# Altium schematic symbol library KNX_MCU_8CH_V1.2.SCHLIB: 46 symbols
Pins are listed as number, name and electrical type; pins without a type are passive.

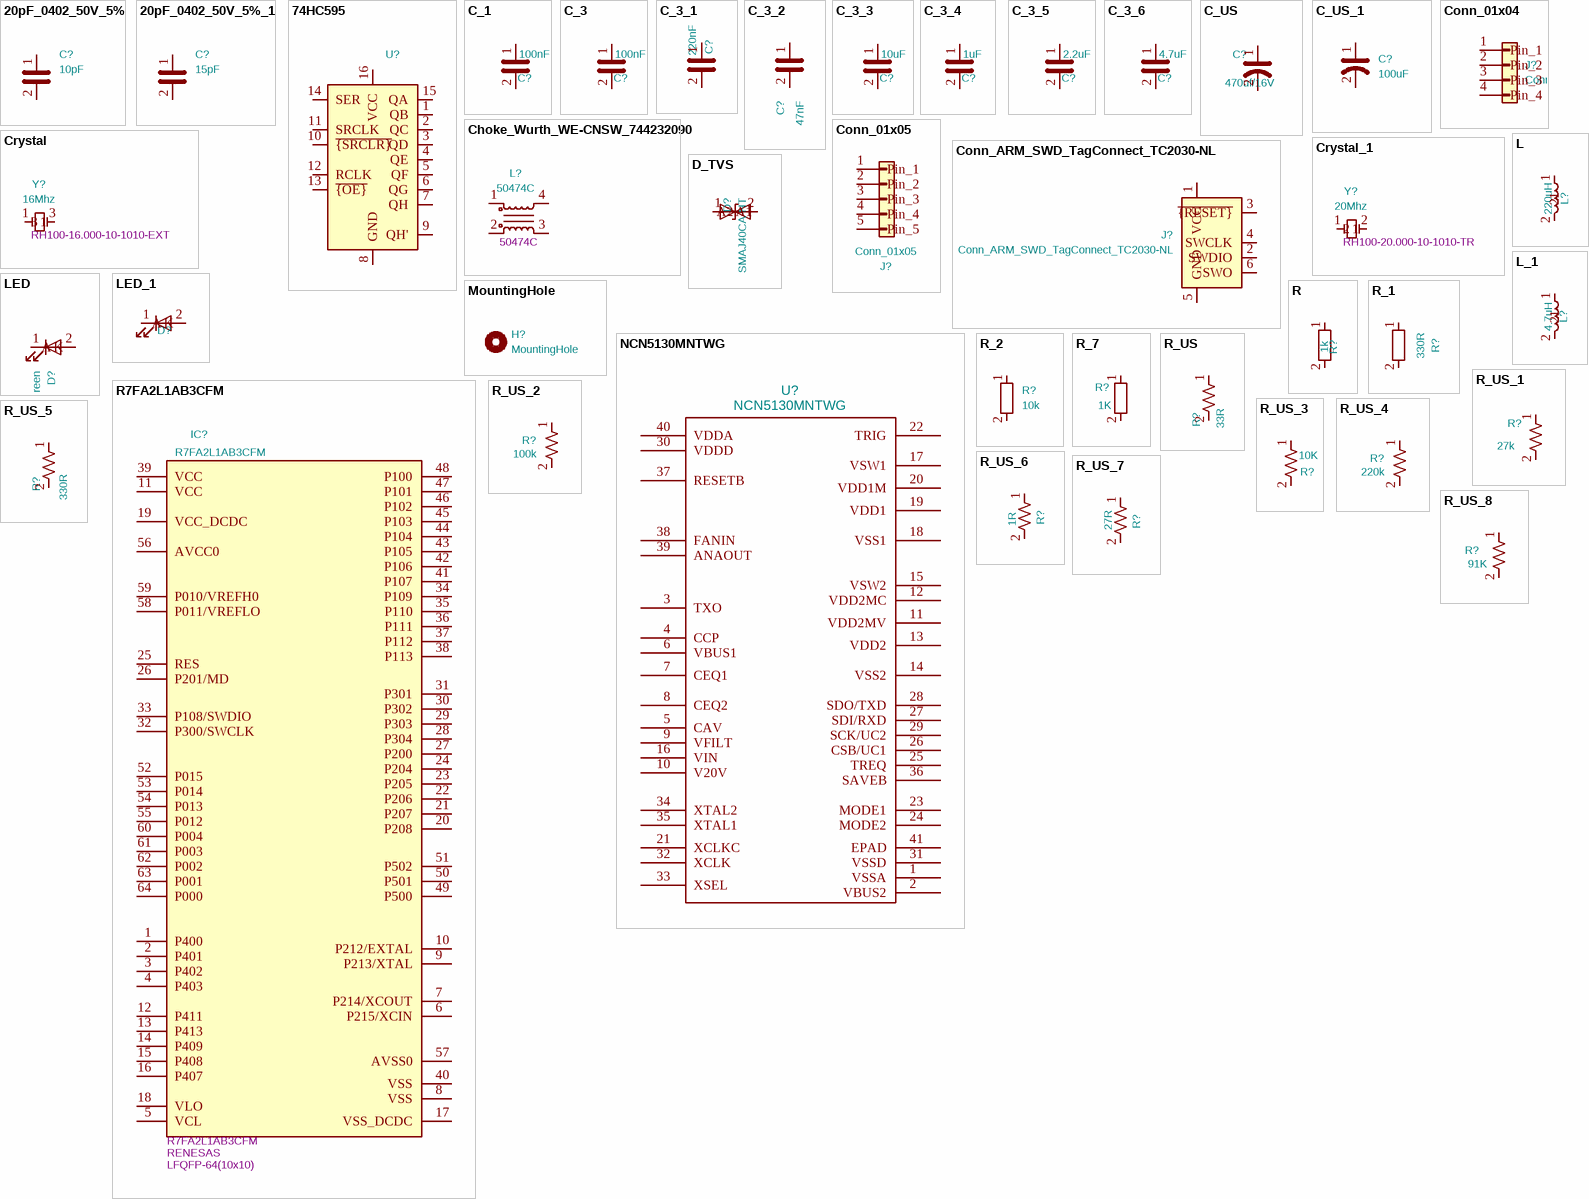
[diagram p0: symbols 20pF_0402_50V_5% to R_US_8]

## 20pF_0402_50V_5%
designator C?, comment 10pF
MP: CL10C100JB8NNNC; MF: Samsung Electro-Mechanics; Package: C0603; OZD: CL10C100JB8NNNC; Footprint: Capacitor_SMD:C_0603_1608Metric; Value: 10pF
footprint C_0603_1608Metric
pins: 1, 2

## 20pF_0402_50V_5%_1
designator C?, comment 15pF
MP: CL10C150JB8NNNC; MF: Samsung Electro-Mechanics; Package: C0603; OZD: CL10C150JB8NNNC; Value: 15pF; Footprint: Capacitor_SMD:C_0603_1608Metric
footprint C_0603_1608Metric
pins: 1, 2

## 74HC595
designator U?, comment 74HC595PW,118  (value not drawn)
MF: Nexperia; MP: 74HC595PW,118; Package: TSSOP-16; Value: 74HC595PW,118; Footprint: Package_SO:TSSOP-16_4.4x5mm_P0.65mm
footprint TSSOP-16_4.4x5mm_P0.65mm
pins: 1 QB, 2 QC, 3 QD, 4 QE, 5 QF, 6 QG, 7 QH, 8 GND, 9 QH', 10 ~{{SRCLR}}, 11 SRCLK, 12 RCLK, 13 ~{{OE}}, 14 SER, 15 QA, 16 VCC

## C_1
designator C?, comment 100nF
MP: CL10B104KB8NNNC; MF: Samsung Electro-Mechanics; Package: C_0603; Value: 100nF; Footprint: Capacitor_SMD:C_0603_1608Metric
footprint C_0603_1608Metric
pins: 1, 2

## C_3
designator C?, comment 100nF
MP: CC0603KRX7R9BB104; MF: YAGEO; Package: C_0603; Value: 100nF; Footprint: Capacitor_SMD:C_0603_1608Metric
footprint C_0603_1608Metric
pins: 1, 2

## C_3_1
designator C?, comment 220nF
MP: CL10B224KB8NNNC; MF: Samsung Electro-Mechanics; Package: C_0603; OZD: CL10B224KB8NNNC; Value: 220nF; Footprint: Capacitor_SMD:C_0603_1608Metric
footprint C_0603_1608Metric
pins: 1, 2

## C_3_2
designator C?, comment 47nF
MP: CL10B473KB8NNNC; MF: SAMSUNG; Package: C_0603; OZD: CL10B473KB8NNNC; Value: 47nF; Footprint: Capacitor_SMD:C_0603_1608Metric
footprint C_0603_1608Metric
pins: 1, 2

## C_3_3
designator C?, comment 10uF
MP: CL21B106KOQNNNE; MF: Samsung Electro-Mechanics; Package: C_0805; OZD: CL21B106KOQNNNE; Value: 10uF; Footprint: Capacitor_SMD:C_0805_2012Metric
footprint C_0805_2012Metric
pins: 1, 2

## C_3_4
designator C?, comment 1uF
MP: CL10B105KP8NNNC; MF: Samsung Electro-Mechanics; Package: C_0603; OZD: CL10B105KP8NNNC; Value: 1uF; Footprint: Capacitor_SMD:C_0603_1608Metric
footprint C_0603_1608Metric
pins: 1, 2

## C_3_5
designator C?, comment 2.2uF
MP: CL10B225KP8NNNC; MF: Samsung Electro-Mechanics; Package: C_0603; OZD: CL10B225KP8NNNC; Value: 2.2uF; Footprint: Capacitor_SMD:C_0603_1608Metric
footprint C_0603_1608Metric
pins: 1, 2

## C_3_6
designator C?, comment 4.7uF
MP: CL10B475KQ8NQNC; MF: Samsung Electro-Mechanics; OZD: C1608X7S1A475K080AC; Package: C_0603; Value: 4.7uF; Footprint: Capacitor_SMD:C_0603_1608Metric
footprint C_0603_1608Metric
pins: 1, 2

## C_US
designator C?, comment 470uf/16V
OZD: EEEFK1C471P; Value: 470uf/16V; Footprint: Capacitor_SMD:CP_Elec_8x10
footprint CP_Elec_8x10
pins: 1, 2

## C_US_1
designator C?, comment 100uF
MP: CD035M101F10PKKKV00A; MF: SUSCON; Package: Radial D8 L10; Value: 100uF; Footprint: Capacitor_SMD:CP_Elec_8x10
footprint CP_Elec_8x10
pins: 1, 2

## Choke_Wurth_WE-CNSW_744232090
designator L?, comment 50474C
MF: muRata; MP: 50474C; Package: SMD-4P,7x5.9mm; OZD: 50474C; Value: 50474C; Footprint: Me_Library:L_CommonMode_50474C_7.5x5.9mm
footprint L_CommonMode_50474C_7.5x5.9mm
pins: 1, 2, 3, 4

## Conn_01x04
designator J?
Footprint: Connector_PinHeader_2.54mm:PinHeader_1x04_P2.54mm_Vertical; Value: Conn_01x04
footprint PinHeader_1x04_P2.54mm_Vertical
pins: 1 Pin_1, 2 Pin_2, 3 Pin_3, 4 Pin_4

## Conn_01x05
designator J?
Value: Conn_01x05; Footprint: Connector_PinHeader_2.54mm:PinHeader_1x05_P2.54mm_Vertical
footprint PinHeader_1x05_P2.54mm_Vertical
pins: 1 Pin_1, 2 Pin_2, 3 Pin_3, 4 Pin_4, 5 Pin_5

## Conn_ARM_SWD_TagConnect_TC2030-NL
designator J?
Footprint: Connector:Tag-Connect_TC2030-IDC-NL_2x03_P1.27mm_Vertical; Value: Conn_ARM_SWD_TagConnect_TC2030-NL
footprint Tag-Connect_TC2030-IDC-NL_2x03_P1.27mm_Vertical
pins: 1 VCC, 2 SWDIO, 3 ~{{RESET}}, 4 SWCLK, 5 GND, 6 SWO

## Crystal
designator Y?, comment OZD: RH100-16.000-10-1010-EXT  (hidden comment: 16Mhz)
MF: RALTRON; MP: RH100-16.000-10-1010-EXT; Package: 4-SMD; Value: 16Mhz; Footprint: Crystal:Crystal_SMD_SeikoEpson_FA238V-4Pin_3.2x2.5mm
footprint Crystal_SMD_SeikoEpson_FA238V-4Pin_3.2x2.5mm
pins: 1, 3

## Crystal_1
designator Y?, comment OZD: RH100-20.000-10-1010-TR  (hidden comment: 20Mhz)
MP: FL3P2X2P5SSC; MF: RALTRON; Package: 4-SMD 3225; Value: 20Mhz; Footprint: Crystal:Crystal_SMD_SeikoEpson_FA238-4Pin_3.2x2.5mm
footprint Crystal_SMD_SeikoEpson_FA238-4Pin_3.2x2.5mm
pins: 1, 2

## D_TVS
designator D?, comment SMAJ40CA-HT
MF: HOTTECH; MP: SMAJ40CA-HT; Package: DO214AC (SMA); OZD: SMAJ40CA-HT; Value: SMAJ40CA-HT; Footprint: Diode_SMD:D_SMA
footprint D_SMA
pins: 1 A1, 2 A2

## L
designator L?, comment 220uH
MP: NR6028-221M; MF: CORE MASTER; Package: Non Standard; Value: 220uH; Footprint: Inductor_SMD:L_APV_ANR6028
footprint L_APV_ANR6028
pins: 1, 2

## L_1
designator L?, comment 4.7uH
OZD: PCD0302MT4R7; Field6: NRS5030T4R7MMGJV; MF: VIKING; MP: PCD0302MT4R7; Package: Non Standard; Value: 4.7uH; Footprint: Inductor_SMD:L_APV_ANR5012
footprint L_APV_ANR5012
pins: 1, 2

## LED
designator D?, comment Led_Green
MP: TZ-L2-03YYBYG1GDJ30-001; MF: TUOZHAN; OZD: FYL-5014UBC1C-1MA-TR13; Package: Through Hole,D=3mm; Value: Led_Green; Footprint: LED_THT:LED_D3.0mm
footprint LED_D3.0mm
pins: 1 K, 2 A

## LED_1
designator D?, comment LED  (value not drawn)
Sim.Pins: 1=K 2=A; MF: LITEON; MP: LTST-C190KFKT-5A; Package: L_0603; Value: LED; Footprint: LED_SMD:LED_0603_1608Metric
footprint LED_0603_1608Metric
pins: 1 K, 2 A

## MountingHole
designator H?
Value: MountingHole; Footprint: MountingHole:MountingHole_3mm
footprint MountingHole_3mm

## NCN5130MNTWG
designator U?
MF: onsemi; MP: NCN5130MNTWG; Package: QFN-40-EP(6x6); Value: NCN5130MNTWG; Footprint: Me_Library:QFN40_485AU-01_ONS
footprint QFN40_485AU-01_ONS
pins: 1 VSSA, 2 VBUS2, 3 TXO, 4 CCP, 5 CAV, 6 VBUS1, 7 CEQ1, 8 CEQ2, 9 VFILT, 10 V20V, 11 VDD2MV, 12 VDD2MC, 13 VDD2, 14 VSS2, 15 VSW2, 16 VIN, 17 VSW1, 18 VSS1, 19 VDD1, 20 VDD1M, 21 XCLKC, 22 TRIG, 23 MODE1, 24 MODE2, 25 TREQ, 26 CSB/UC1, 27 SDI/RXD, 28 SDO/TXD, 29 SCK/UC2, 30 VDDD, 31 VSSD, 32 XCLK, 33 XSEL, 34 XTAL2, 35 XTAL1, 36 SAVEB, 37 RESETB, 38 FANIN, 39 ANAOUT, 40 VDDA, 41 EPAD

## R
designator R?, comment 1k
MF: YAGEO; MP: RC0603JR-071KL; Package: R_0603; Value: 1k; Footprint: Resistor_SMD:R_0603_1608Metric
footprint R_0603_1608Metric
pins: 1, 2

## R7FA2L1AB3CFM
designator IC?  MF: RENESAS  Package: LFQFP-64(10x10)  (hidden comment: R7FA2L1AB3CFM)
MP: R7FA2L1AB3CFM; Value: R7FA2L1AB3CFM; Footprint: Package_QFP:LQFP-64_10x10mm_P0.5mm
footprint LQFP-64_10x10mm_P0.5mm
pins: 1 P400, 2 P401, 3 P402, 4 P403, 5 VCL, 6 P215/XCIN, 7 P214/XCOUT, 8 VSS, 9 P213/XTAL, 10 P212/EXTAL, 11 VCC, 12 P411, 13 P413, 14 P409, 15 P408, 16 P407, 17 VSS_DCDC, 18 VLO, 19 VCC_DCDC, 20 P208, 21 P207, 22 P206, 23 P205, 24 P204, 25 RES, 26 P201/MD, 27 P200, 28 P304, 29 P303, 30 P302, 31 P301, 32 P300/SWCLK, 33 P108/SWDIO, 34 P109, 35 P110, 36 P111, 37 P112, 38 P113, 39 VCC, 40 VSS, 41 P107, 42 P106, 43 P105, 44 P104, 45 P103, 46 P102, 47 P101, 48 P100, 49 P500, 50 P501, 51 P502, 52 P015, 53 P014, 54 P013, 55 P012, 56 AVCC0, 57 AVSS0, 58 P011/VREFLO, 59 P010/VREFH0, 60 P004, 61 P003, 62 P002, 63 P001, 64 P000

## R_1
designator R?, comment 330R
MF: FOJAN; MP: FRC0603J331 TS; Package: R_0603; Value: 330R; Footprint: Resistor_SMD:R_0603_1608Metric
footprint R_0603_1608Metric
pins: 1, 2

## R_2
designator R?, comment 10k
MF: FOJAN; MP: FRC0603J103TS; Package: R_0603; Value: 10k; Footprint: Resistor_SMD:R_0603_1608Metric
footprint R_0603_1608Metric
pins: 1, 2

## R_7
designator R?, comment 1K
MP: SCR0603J1K; MF: VO; Package: R0603; Value: 1K; Footprint: Resistor_SMD:R_0603_1608Metric
footprint R_0603_1608Metric
pins: 1, 2

## R_US
designator R?, comment 33R
MP: RC0603JR-0733RL; MF: YAGEO; Package: R_0603; Value: 33R; Footprint: Resistor_SMD:R_0603_1608Metric
footprint R_0603_1608Metric
pins: 1, 2

## R_US_1
designator R?, comment 27k
MP: ERJ3EKF2702V; MF: PANASONIC; Package: R_0603; Value: 27k; Footprint: Resistor_SMD:R_0603_1608Metric
footprint R_0603_1608Metric
pins: 1, 2

## R_US_2
designator R?, comment 100k
MP: RC0603FR-07100KL; MF: YAGEO; Package: R_0603; Value: 100k; Footprint: Resistor_SMD:R_0603_1608Metric
footprint R_0603_1608Metric
pins: 1, 2

## R_US_3
designator R?, comment 10K
MP: FRC0603J103TS; MF: FOJAN; Package: R_0603; Value: 10K; Footprint: Resistor_SMD:R_0603_1608Metric
footprint R_0603_1608Metric
pins: 1, 2

## R_US_4
designator R?, comment 220k
MP: ERJ3EKF2203V; MF: PANASONIC; Package: R_0603; Value: 220k; Footprint: Resistor_SMD:R_0603_1608Metric
footprint R_0603_1608Metric
pins: 1, 2

## R_US_5
designator R?, comment 330R
MP: FRC0603J331 TS; MF: FOJAN; Package: R_0603; Value: 330R; Footprint: Resistor_SMD:R_0603_1608Metric
footprint R_0603_1608Metric
pins: 1, 2

## R_US_6
designator R?, comment 1R
MP: ERJ6RQF1R0V; MF: PANASONIC; Package: R_0805; OZD: ERJ6RQF1R0V; Value: 1R; Footprint: Resistor_SMD:R_0805_2012Metric
footprint R_0805_2012Metric
pins: 1, 2

## R_US_7
designator R?, comment 27R
MP: HP122WF270JT4E; MF: ROYALOHM; Package: R_2512; OZD: HP122WF270JT4E; Value: 27R; Footprint: Resistor_SMD:R_2512_6332Metric
footprint R_2512_6332Metric
pins: 1, 2

## R_US_8
designator R?, comment 91K
MP: 0603SAF9102T5E; MF: ROYALOHM; Package: R_0603; OZD: 0603SAF9102T5E; Value: 91K; Footprint: Resistor_SMD:R_0603_1608Metric
footprint R_0603_1608Metric
pins: 1, 2

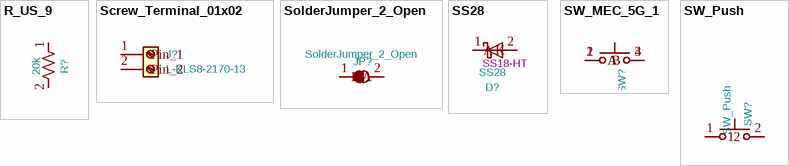
[diagram p1: symbols R_US_9 to SW_Push]

## R_US_9
designator R?, comment 20k
MP: 0603SAF2002T5E; MF: ROYALOHM; Package: R_0603; OZD: 0603SAF2002T5E; Value: 20k; Footprint: Resistor_SMD:R_0603_1608Metric
footprint R_0603_1608Metric
pins: 1, 2

## Screw_Terminal_01x02
designator J?, comment L-KLS8-2170-13
MF: KLS ELECTRONIC; MP: L-KLS8-2170-13; OZD: L-KLS8-2170-13; Package: THT V/T; Value: L-KLS8-2170-13; Footprint: Connector_Samtec_HPM_THT:Samtec_HPM-02-01-x-S_Straight_1x02_Pitch5.08mm
footprint Samtec_HPM-02-01-x-S_Straight_1x02_Pitch5.08mm
pins: 1 Pin_1, 2 Pin_2

## SolderJumper_2_Open
designator JP?
Value: SolderJumper_2_Open; Footprint: Jumper:SolderJumper-2_P1.3mm_Open_TrianglePad1.0x1.5mm
footprint SolderJumper-2_P1.3mm_Open_TrianglePad1.0x1.5mm
pins: 1 A, 2 B

## SS28
designator D?  OZD: SS18-HT  (hidden comment: SS28)
MF: HOTTECH; MP: SS18-HT; Package: DO214AC (SMA); Value: SS28; Footprint: Diode_SMD:D_SMA
footprint D_SMA
pins: 1 K, 2 A

## SW_MEC_5G_1
designator SW?, comment SW_MEC_5G  (value not drawn)
MP: L-KLS7-TS3402-2.5-160-T; MF: KLS ELECTRONIC; Package: SMT V/T; Value: SW_MEC_5G; Footprint: Me_Library:L-KLS7-TS3402-2.5
footprint L-KLS7-TS3402-2.5
pins: 1 A, 2 A, 3 B, 4 B

## SW_Push
designator SW?
MP: KH-12X12X8H-SMT; MF: kinghelm; Package: SMD,12x12mm; Value: SW_Push; Footprint: Button_Switch_SMD:SW_SPST_Omron_B3FS-100xP
footprint SW_SPST_Omron_B3FS-100xP
pins: 1, 2